# EAGLE library part OPA1612 (library ic-TI)
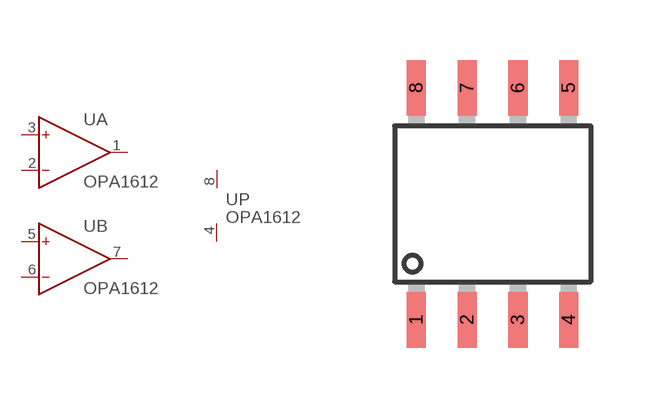
[diagram p2: symbol with the pads of SOP8; footprint SOP8]

Designator prefix U; gates A=OPAMP B=OPAMP P=OPAMP_PWR

## OPA1612  [SOP8]
1  A:OUT  out
2  A:IN-  in
3  A:IN+  in
4  P:V-  in
5  B:IN+  in
6  B:IN-  in
7  B:OUT  out
8  P:V+  in

## Footprint SOP8 (pad centres in mm)
smd 0.48 x 1.4: 1 -1.905,-2.9; 2 -0.635,-2.9; 3 0.635,-2.9; 4 1.905,-2.9; 5 1.905,2.9; 6 0.635,2.9; 7 -0.635,2.9; 8 -1.905,2.9